# EAGLE library part TEN60-P6-S24-S24-P6-RA (library BackplaneConnector)
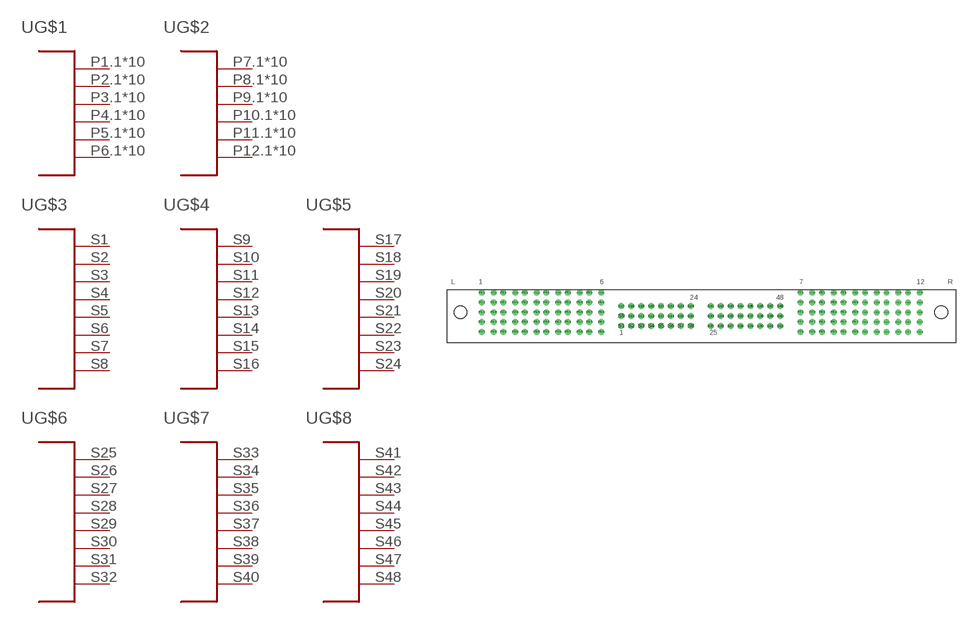
[diagram p8: symbol with the pads of TEN60-P6-S24-S24-P6-RA; footprint TEN60-P6-S24-S24-P6-RA]

Designator prefix -; gates G$1=TEN60-6-PWR G$2=TEN60-6-PWR G$3=TEN60-8-SIG G$4=TEN60-8-SIG G$5=TEN60-8-SIG G$6=TEN60-8-SIG G$7=TEN60-8-SIG G$8=TEN60-8-SIG

## TEN60-P6-S24-S24-P6-RA  [TEN60-P6-S24-S24-P6-RA]
P1.1  G$1:P$1
P1.2  G$1:P$1
P1.3  G$1:P$1
P1.4  G$1:P$1
P1.5  G$1:P$1
P1.6  G$1:P$1
P1.7  G$1:P$1
P1.8  G$1:P$1
P1.9  G$1:P$1
P1.10  G$1:P$1
P2.1  G$1:P$2
P2.2  G$1:P$2
P2.3  G$1:P$2
P2.4  G$1:P$2
P2.5  G$1:P$2
P2.6  G$1:P$2
P2.7  G$1:P$2
P2.8  G$1:P$2
P2.9  G$1:P$2
P2.10  G$1:P$2
P3.1  G$1:P$3
P3.2  G$1:P$3
P3.3  G$1:P$3
P3.4  G$1:P$3
P3.5  G$1:P$3
P3.6  G$1:P$3
P3.7  G$1:P$3
P3.8  G$1:P$3
P3.9  G$1:P$3
P3.10  G$1:P$3
P4.1  G$1:P$4
P4.2  G$1:P$4
P4.3  G$1:P$4
P4.4  G$1:P$4
P4.5  G$1:P$4
P4.6  G$1:P$4
P4.7  G$1:P$4
P4.8  G$1:P$4
P4.9  G$1:P$4
P4.10  G$1:P$4
P5.1  G$1:P$5
P5.2  G$1:P$5
P5.3  G$1:P$5
P5.4  G$1:P$5
P5.5  G$1:P$5
P5.6  G$1:P$5
P5.7  G$1:P$5
P5.8  G$1:P$5
P5.9  G$1:P$5
P5.10  G$1:P$5
P6.1  G$1:P$6
P6.2  G$1:P$6
P6.3  G$1:P$6
P6.4  G$1:P$6
P6.5  G$1:P$6
P6.6  G$1:P$6
P6.7  G$1:P$6
P6.8  G$1:P$6
P6.9  G$1:P$6
P6.10  G$1:P$6
P7.1  G$2:P$1
P7.2  G$2:P$1
P7.3  G$2:P$1
P7.4  G$2:P$1
P7.5  G$2:P$1
P7.6  G$2:P$1
P7.7  G$2:P$1
P7.8  G$2:P$1
P7.9  G$2:P$1
P7.10  G$2:P$1
P8.1  G$2:P$2
P8.2  G$2:P$2
P8.3  G$2:P$2
P8.4  G$2:P$2
P8.5  G$2:P$2
P8.6  G$2:P$2
P8.7  G$2:P$2
P8.8  G$2:P$2
P8.9  G$2:P$2
P8.10  G$2:P$2
P9.1  G$2:P$3
P9.2  G$2:P$3
P9.3  G$2:P$3
P9.4  G$2:P$3
P9.5  G$2:P$3
P9.6  G$2:P$3
P9.7  G$2:P$3
P9.8  G$2:P$3
P9.9  G$2:P$3
P9.10  G$2:P$3
P10.1  G$2:P$4
P10.2  G$2:P$4
P10.3  G$2:P$4
P10.4  G$2:P$4
P10.5  G$2:P$4
P10.6  G$2:P$4
P10.7  G$2:P$4
P10.8  G$2:P$4
P10.9  G$2:P$4
P10.10  G$2:P$4
P11.1  G$2:P$5
P11.2  G$2:P$5
P11.3  G$2:P$5
P11.4  G$2:P$5
P11.5  G$2:P$5
P11.6  G$2:P$5
P11.7  G$2:P$5
P11.8  G$2:P$5
P11.9  G$2:P$5
P11.10  G$2:P$5
P12.1  G$2:P$6
P12.2  G$2:P$6
P12.3  G$2:P$6
P12.4  G$2:P$6
P12.5  G$2:P$6
P12.6  G$2:P$6
P12.7  G$2:P$6
P12.8  G$2:P$6
P12.9  G$2:P$6
P12.10  G$2:P$6
S1  G$3:P$1
S2  G$3:P$2
S3  G$3:P$3
S4  G$3:P$4
S5  G$3:P$5
S6  G$3:P$6
S7  G$3:P$7
S8  G$3:P$8
S9  G$4:P$1
S10  G$4:P$2
S11  G$4:P$3
S12  G$4:P$4
S13  G$4:P$5
S14  G$4:P$6
S15  G$4:P$7
S16  G$4:P$8
S17  G$5:P$1
S18  G$5:P$2
S19  G$5:P$3
S20  G$5:P$4
S21  G$5:P$5
S22  G$5:P$6
S23  G$5:P$7
S24  G$5:P$8
S25  G$6:P$1
S26  G$6:P$2
S27  G$6:P$3
S28  G$6:P$4
S29  G$6:P$5
S30  G$6:P$6
S31  G$6:P$7
S32  G$6:P$8
S33  G$7:P$1
S34  G$7:P$2
S35  G$7:P$3
S36  G$7:P$4
S37  G$7:P$5
S38  G$7:P$6
S39  G$7:P$7
S40  G$7:P$8
S41  G$8:P$1
S42  G$8:P$2
S43  G$8:P$3
S44  G$8:P$4
S45  G$8:P$5
S46  G$8:P$6
S47  G$8:P$7
S48  G$8:P$8

## Footprint TEN60-P6-S24-S24-P6-RA (pad centres in mm)
drill 1: P1.1 8.82,12.9; P1.2 8.82,10.4; P1.3 8.82,7.9; P1.4 8.82,5.4; P1.5 8.82,2.9; P1.6 11.82,2.9; P1.7 11.82,5.4; P1.8 11.82,7.9; P1.9 11.82,10.4; P1.10 11.82,12.9; P2.1 14.32,12.9; P2.2 14.32,10.4; P2.3 14.32,7.9; P2.4 14.32,5.4; P2.5 14.32,2.9; P2.6 17.32,2.9; P2.7 17.32,5.4; P2.8 17.32,7.9; P2.9 17.32,10.4; P2.10 17.32,12.9; P3.1 19.82,12.9; P3.2 19.82,10.4; P3.3 19.82,7.9; P3.4 19.82,5.4; P3.5 19.82,2.9; P3.6 22.82,2.9; P3.7 22.82,5.4; P3.8 22.82,7.9; P3.9 22.82,10.4; P3.10 22.82,12.9; P4.1 25.32,12.9; P4.2 25.32,10.4; P4.3 25.32,7.9; P4.4 25.32,5.4; P4.5 25.32,2.9; P4.6 28.32,2.9; P4.7 28.32,5.4; P4.8 28.32,7.9; P4.9 28.32,10.4; P4.10 28.32,12.9; P5.1 30.82,12.9; P5.2 30.82,10.4; P5.3 30.82,7.9; P5.4 30.82,5.4; P5.5 30.82,2.9; P5.6 33.82,2.9; P5.7 33.82,5.4; P5.8 33.82,7.9; P5.9 33.82,10.4; P5.10 33.82,12.9; P6.1 36.32,12.9; P6.2 36.32,10.4; P6.3 36.32,7.9; P6.4 36.32,5.4; P6.5 36.32,2.9; P6.6 39.32,2.9; P6.7 39.32,5.4; P6.8 39.32,7.9; P6.9 39.32,10.4; P6.10 39.32,12.9; P7.1 90.32,12.9; P7.2 90.32,10.4; P7.3 90.32,7.9; P7.4 90.32,5.4; P7.5 90.32,2.9; P7.6 93.32,2.9; P7.7 93.32,5.4; P7.8 93.32,7.9; P7.9 93.32,10.4; P7.10 93.32,12.9; P8.1 95.82,12.9; P8.2 95.82,10.4; P8.3 95.82,7.9; P8.4 95.82,5.4; P8.5 95.82,2.9; P8.6 98.82,2.9; P8.7 98.82,5.4; P8.8 98.82,7.9; P8.9 98.82,10.4; P8.10 98.82,12.9; P9.1 101.32,12.9; P9.2 101.32,10.4; P9.3 101.32,7.9; P9.4 101.32,5.4; P9.5 101.32,2.9; P9.6 104.32,2.9; P9.7 104.32,5.4; P9.8 104.32,7.9; P9.9 104.32,10.4; P9.10 104.32,12.9; P10.1 106.82,12.9; P10.2 106.82,10.4; P10.3 106.82,7.9; P10.4 106.82,5.4; P10.5 106.82,2.9; P10.6 109.82,2.9; P10.7 109.82,5.4; P10.8 109.82,7.9; P10.9 109.82,10.4; P10.10 109.82,12.9; P11.1 112.32,12.9; P11.2 112.32,10.4; P11.3 112.32,7.9; P11.4 112.32,5.4; P11.5 112.32,2.9; P11.6 115.32,2.9; P11.7 115.32,5.4; P11.8 115.32,7.9; P11.9 115.32,10.4; P11.10 115.32,12.9; P12.1 117.82,12.9; P12.2 117.82,10.4; P12.3 117.82,7.9; P12.4 117.82,5.4; P12.5 117.82,2.9; P12.6 120.82,2.9; P12.7 120.82,5.4; P12.8 120.82,7.9; P12.9 120.82,10.4; P12.10 120.82,12.9; S1 44.48,4.4; S2 47.02,4.4; S3 49.56,4.4; S4 52.1,4.4; S5 54.64,4.4; S6 57.18,4.4; S7 59.72,4.4; S8 62.26,4.4; S9 44.48,6.94; S10 47.02,6.94; S11 49.56,6.94; S12 52.1,6.94; S13 54.64,6.94; S14 57.18,6.94; S15 59.72,6.94; S16 62.26,6.94; S17 44.48,9.48; S18 47.02,9.48; S19 49.56,9.48; S20 52.1,9.48; S21 54.64,9.48; S22 57.18,9.48; S23 59.72,9.48; S24 62.26,9.48; S25 67.36,4.4; S26 69.9,4.4; S27 72.44,4.4; S28 74.98,4.4; S29 77.52,4.4; S30 80.06,4.4; S31 82.6,4.4; S32 85.14,4.4; S33 67.36,6.94; S34 69.9,6.94; S35 72.44,6.94; S36 74.98,6.94; S37 77.52,6.94; S38 80.06,6.94; S39 82.6,6.94; S40 85.14,6.94; S41 67.36,9.48; S42 69.9,9.48; S43 72.44,9.48; S44 74.98,9.48; S45 77.52,9.48; S46 80.06,9.48; S47 82.6,9.48; S48 85.14,9.48
hole 3.2 at 3.32,7.9
hole 3.2 at 126.32,7.9